# Altium schematic symbol library DockStation.SchLib: 23 symbols
Pins are listed as number, name and electrical type; pins without a type are passive.

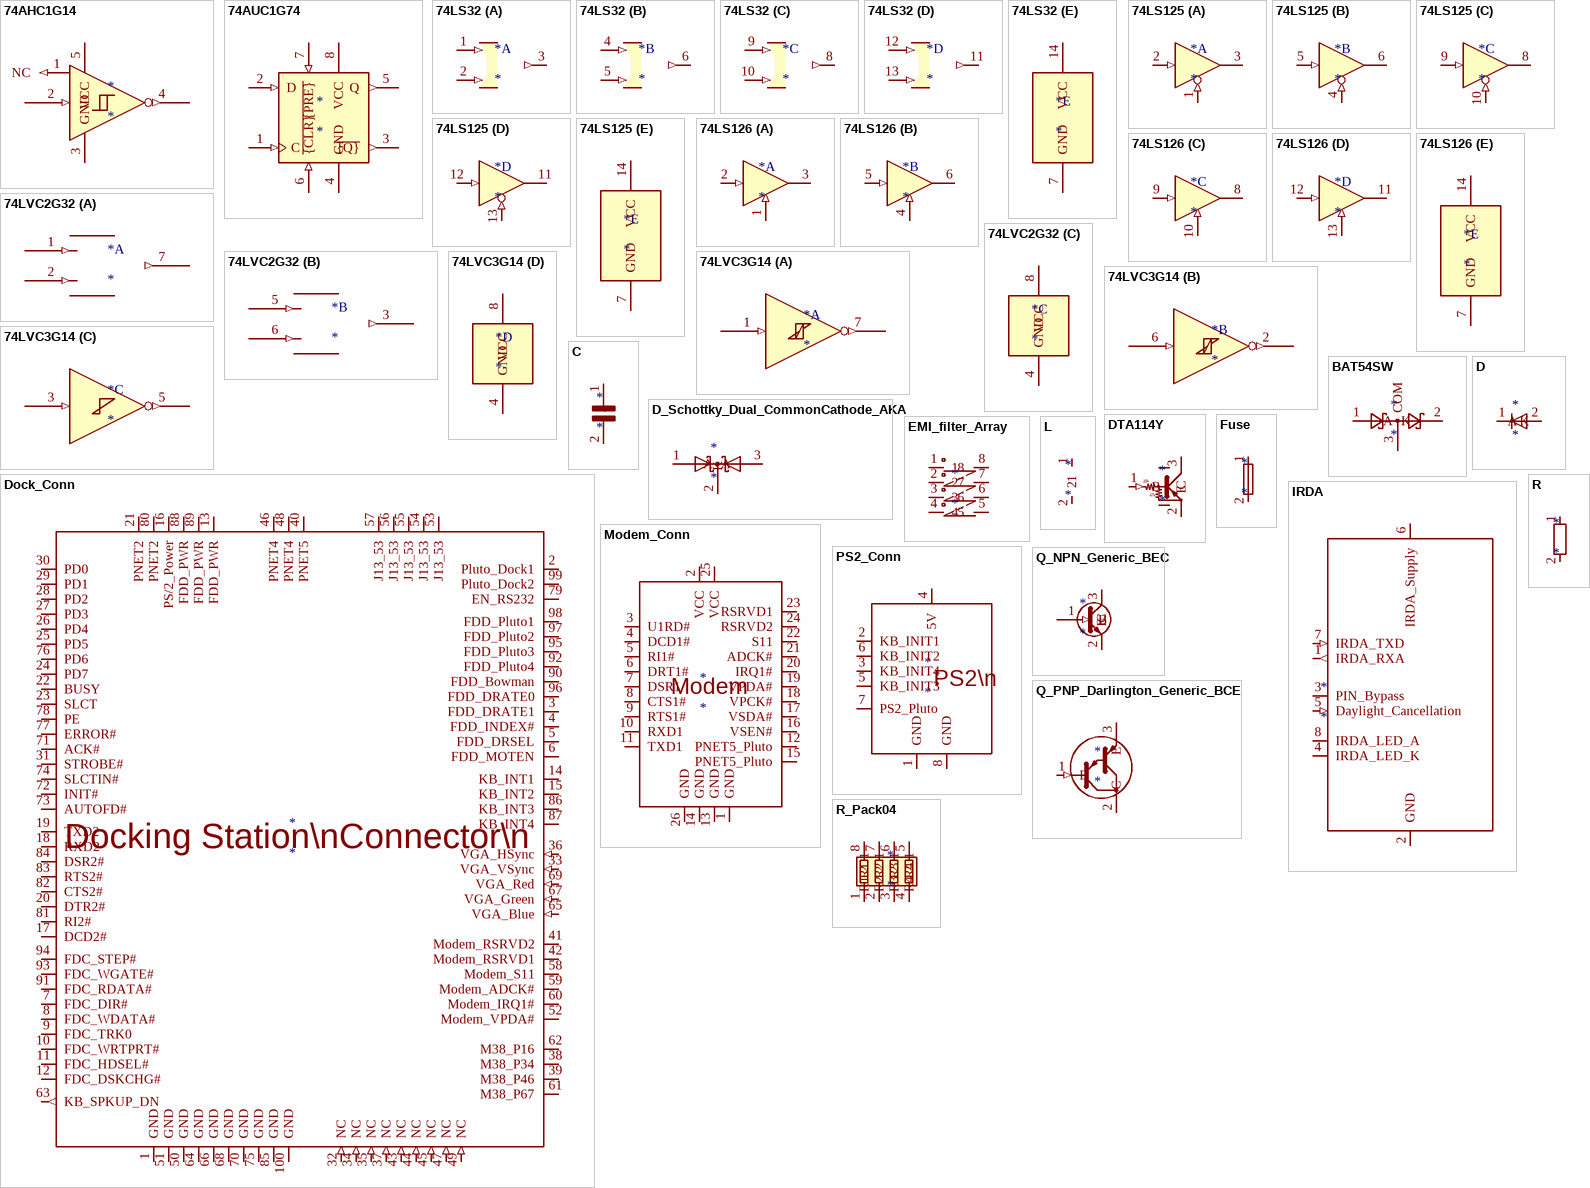
[diagram p0: symbols 74AHC1G14 to R_Pack04]

## 74AHC1G14
designator *
pins: 1 NC (in), 2 (in), 3 GND (power), 4 (out), 5 VCC (power)

## 74AUC1G74
designator *
pins: 1 C (in), 2 D (in), 3 ~{{Q}} (out), 4 GND (power), 5 Q (out), 6 ~{{CLR}} (in), 7 ~{{PRE}} (in), 8 VCC (power)

## 74LS32
designator *
part A pins: 1 (in), 2 (in), 3 (out)
part B pins: 4 (in), 5 (in), 6 (out)
part C pins: 8 (out), 9 (in), 10 (in)
part D pins: 11 (out), 12 (in), 13 (in)
part E pins: 7 GND (power), 14 VCC (power)
1 alternate drawing of the same symbol

## 74LS125
designator *
part A pins: 1 (in), 2 (in), 3 (hiz)
part B pins: 4 (in), 5 (in), 6 (hiz)
part C pins: 8 (hiz), 9 (in), 10 (in)
part D pins: 11 (hiz), 12 (in), 13 (in)
part E pins: 7 GND (power), 14 VCC (power)

## 74LS126
designator *
part A pins: 1 (in), 2 (in), 3 (hiz)
part B pins: 4 (in), 5 (in), 6 (hiz)
part C pins: 8 (hiz), 9 (in), 10 (in)
part D pins: 11 (hiz), 12 (in), 13 (in)
part E pins: 7 GND (power), 14 VCC (power)

## 74LVC2G32
designator *
part A pins: 1 (in), 2 (in), 7 (out)
part B pins: 3 (out), 5 (in), 6 (in)
part C pins: 4 GND (power), 8 VCC (power)

## 74LVC3G14
designator *
part A pins: 1 (in), 7 (out)
part B pins: 2 (out), 6 (in)
part C pins: 3 (in), 5 (out)
part D pins: 4 GND (power), 8 VCC (power)

## BAT54SW
designator *
pins: 1 A, 2 K, 3 COM

## C
designator *
pins: 1 +, 2 -
1 alternate drawing of the same symbol

## D
designator *
pins: 1 K, 2 A

## D_Schottky_Dual_CommonCathode_AKA
designator *
pins: 1 A, 2 K, 3 A

## Dock_Conn
designator *
pins: 1 GND (power), 2 Pluto_Dock1 (io), 3 FDD_DRATE1 (io), 4 FDD_INDEX# (io), 5 FDD_DRSEL (io), 6 FDD_MOTEN (io), 7 FDC_DIR# (io), 8 FDC_WDATA# (io), 9 FDC_TRK0 (io), 10 FDC_WRTPRT# (io), 11 FDC_HDSEL# (io), 12 FDC_DSKCHG# (io), 13 FDD_PWR (power), 14 KB_INT1 (io), 15 KB_INT2 (io), 16 PS/2_Power (power), 17 DCD2# (io), 18 RXD2 (io), 19 TXD2 (io), 20 DTR2# (io), 21 PNET2 (power), 22 BUSY (io), 23 SLCT (io), 24 PD7 (io), 25 PD5 (io), 26 PD4 (io), 27 PD3 (io), 28 PD2 (io), 29 PD1 (io), 30 PD0 (io), 31 STROBE# (io), 32 NC (in), 33 VGA_VSync (in), 34 NC (in), 35 NC (in), 36 VGA_HSync (in), 37 NC (in), 38 M38_P34 (io), 39 M38_P46 (io), 40 PNET5 (power), 41 Modem_RSRVD2 (io), 42 Modem_RSRVD1 (io), 43 NC (in), 44 NC (in), 45 NC (in), 46 PNET4 (power), 47 NC (in), 48 PNET4 (power), 49 NC (in), 50 GND (power), 51 GND (power), 52 Modem_VPDA# (io), 53 J13_53 (io), 54 J13_53 (io), 55 J13_53 (io), 56 J13_53 (io), 57 J13_53 (io), 58 Modem_S11 (io), 59 Modem_ADCK# (io), 60 Modem_IRQ1# (io), 61 M38_P67 (io), 62 M38_P16 (io), 63 KB_SPKUP_DN (out), 64 GND (power), 65 VGA_Blue (in), 66 GND (power), 67 VGA_Green (in), 68 GND (power), 69 VGA_Red (in), 70 GND (power), 71 ACK# (io), 72 INIT# (io), 73 AUTOFD# (io), 74 SLCTIN# (io), 75 GND (power), 76 PD6 (io), 77 ERROR# (io), 78 PE (io), 79 EN_RS232 (io), 80 PNET2 (power), 81 RI2# (io), 82 CTS2# (io), 83 RTS2# (io), 84 DSR2# (io), 85 GND (power), 86 KB_INT3 (io), 87 KB_INT4 (io), 88 FDD_PWR (power), 89 FDD_PWR (power), 90 FDD_Bowman (io), 91 FDC_RDATA# (io), 92 FDD_Pluto4 (io), 93 FDC_WGATE# (io), 94 FDC_STEP# (io), 95 FDD_Pluto3 (io), 96 FDD_DRATE0 (io), 97 FDD_Pluto2 (io), 98 FDD_Pluto1 (io), 99 Pluto_Dock2 (io), 100 GND (power)
text: Docking Station\nConnector\n

## DTA114Y
designator *
pins: 1 B (in), 2 E, 3 C
text: 10k; 47k

## EMI_filter_Array
designator *
pins: 1, 2, 3, 4, 5, 6, 7, 8

## Fuse
designator *
pins: 1, 2

## IRDA
designator *
pins: 1 IRDA_RXA (out), 2 GND (power), 3 PIN_Bypass, 4 IRDA_LED_K, 5 Daylight_Cancellation (in), 6 IRDA_Supply (power), 7 IRDA_TXD (in), 8 IRDA_LED_A (power)

## L
designator *
pins: 1, 2

## Modem_Conn
designator *
pins: 1 GND (power), 2 VCC (power), 3 U1RD# (io), 4 DCD1# (io), 5 RI1# (io), 6 DRT1# (io), 7 DSR1 (io), 8 CTS1# (io), 9 RTS1# (io), 10 RXD1 (io), 11 TXD1 (io), 12 PNET5_Pluto (power), 13 GND (power), 14 GND (power), 15 PNET5_Pluto (power), 16 VSEN# (io), 17 VSDA# (io), 18 VPCK# (io), 19 VPDA# (io), 20 IRQ1# (io), 21 ADCK# (io), 22 S11 (io), 23 RSRVD1 (io), 24 RSRVD2 (io), 25 VCC (power), 26 GND (power)
text: Modem

## PS2_Conn
designator *
pins: 1 GND (power), 2 KB_INIT1 (io), 3 KB_INIT4 (io), 4 5V (power), 5 KB_INIT3 (io), 6 KB_INIT2 (io), 7 PS2_Pluto (io), 8 GND (power)
text: PS2\n

## Q_NPN_Generic_BEC
designator *
pins: 1 B (in), 2 E, 3 C

## Q_PNP_Darlington_Generic_BCE
designator *
pins: 1 B (in), 2 C, 3 E

## R
designator *
pins: 1, 2

## R_Pack04
designator *
pins: 1 R1.1, 2 R2.1, 3 R3.1, 4 R4.1, 5 R4.2, 6 R3.2, 7 R2.2, 8 R1.2